# Altium schematic symbol library CD4504BM96.SchLib: 1 symbol
Pins are listed as number, name and electrical type; pins without a type are passive.

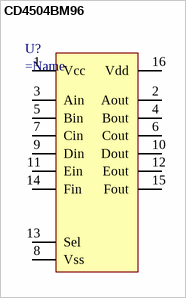
[diagram p0: symbol CD4504BM96]

## CD4504BM96
designator U?
pins: 1 Vcc, 2 Aout, 3 Ain, 4 Bout, 5 Bin, 6 Cout, 7 Cin, 8 Vss, 9 Din, 10 Dout, 11 Ein, 12 Eout, 13 Sel, 14 Fin, 15 Fout, 16 Vdd